# EAGLE library part 768143*G (library cts)
50V Maxumum
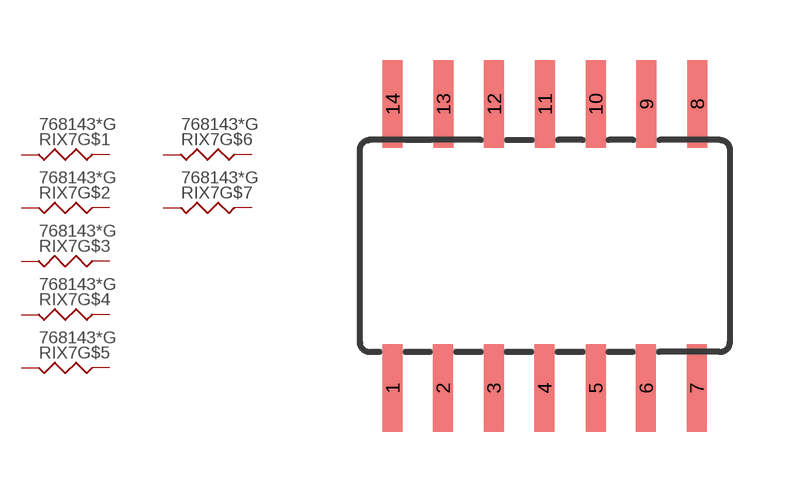
[diagram p3: symbol with the pads of SOP14; footprint SOP14]

Designator prefix RIX7; gates G$1=RESISTOR G$2=RESISTOR G$3=RESISTOR G$4=RESISTOR G$5=RESISTOR G$6=RESISTOR G$7=RESISTOR

## 768143G, 768143000G, 768143100G, 768143101G, 768143102G, 768143103G, 768143104G, 768143105G, 768143111G, 768143112G, 768143113G, 768143114G, 768143120G, 768143121G, 768143123G, 768143124G, 768143150G, 768143151G, 768143152G, 768143153G, 768143154G, 768143180G, 768143181G, 768143182G, 768143183G, 768143184G, 768143201G, 768143202G, 768143203G, 768143204G, 768143220G, 768143221G, 768143222G, 768143223G, 768143224G, 768143270G, 768143271G, 768143272G, 768143273G, 768143274G, 768143330G, 768143331G, 768143332G, 768143333G, 768143334G, 768143390G, 768143391G, 768143392G, 768143393G, 768143394G, 768143470G, 768143471G, 768143472G, 768143473G, 768143474G, 768143510G, 768143511G, 768143512G, 768143560G, 768143561G, 768143562G, 768143563G, 768143564G, 768143680G, 768143681G, 768143682G, 768143683G, 768143684G, 768143820G, 768143821G, 768143822G, 768143823G, 768143824G  [SOP14]
1  G$1:1  pas
2  G$2:1  pas
3  G$3:1  pas
4  G$4:1  pas
5  G$5:1  pas
6  G$6:1  pas
7  G$7:1  pas
8  G$7:2  pas
9  G$6:2  pas
10  G$5:2  pas
11  G$4:2  pas
12  G$3:2  pas
13  G$2:2  pas
14  G$1:2  pas

## Footprint SOP14 (pad centres in mm)
Small Outline Package
smd 0.5 x 2.2: 1 0,-0.375; 2 1.26,-0.375; 3 2.53,-0.375; 4 3.8,-0.375; 5 5.08,-0.375; 6 6.34,-0.375; 7 7.61,-0.375; 8 7.62,6.725; 9 6.35,6.725; 10 5.08,6.725; 11 3.81,6.725; 12 2.54,6.725; 13 1.27,6.725; 14 0,6.725